# Altium footprint library 采集板3.0增加1路模拟量2.PcbLib: 46 footprints (part 1 of 3)
Each footprint in its own frame and in the unit in brackets; x right, y up, seen from the top. Pads: shape width x height; smd on the part's side, far side on the other; paste and mask are expansions set on the pad; w line width, h text height; cw(c..) or ccw(c..) is an arc to the next point about the centre after c.
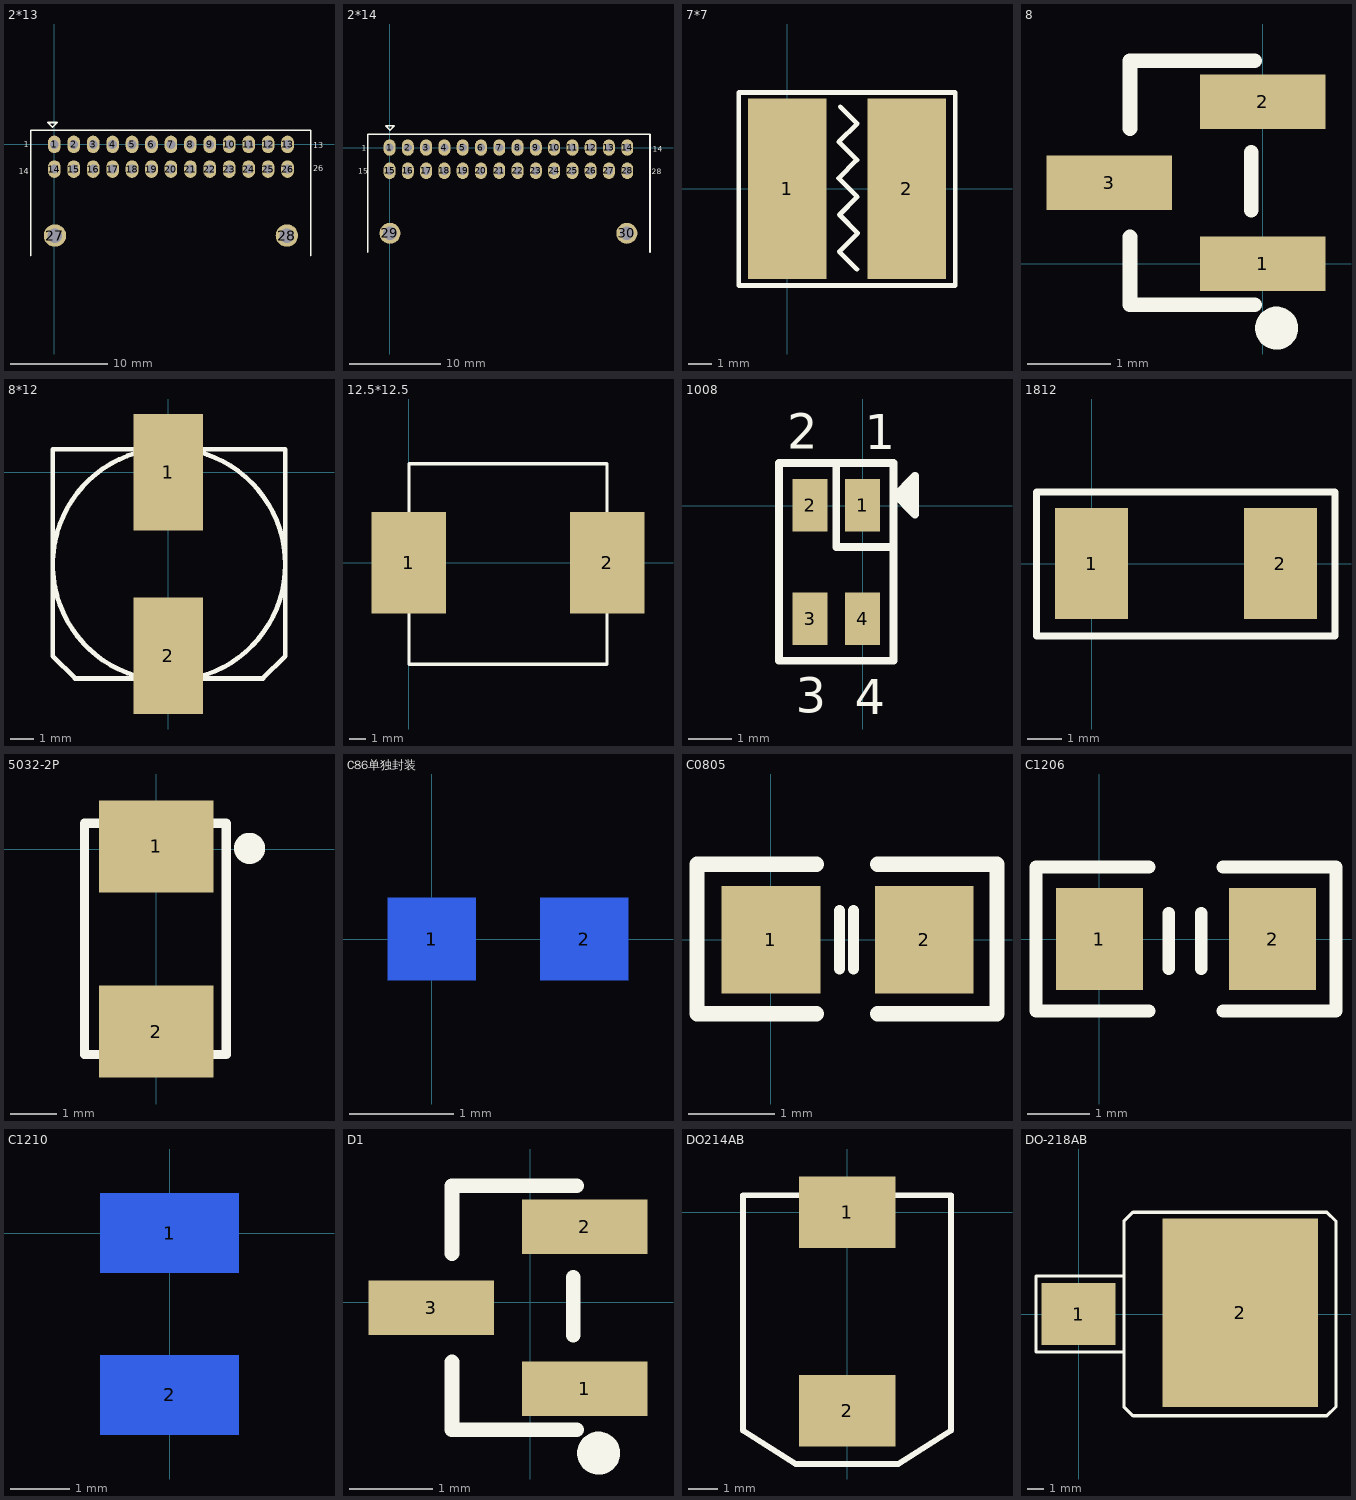
[diagram p0: the footprints below, top view; thin cyan lines are the x and y axes]

## 2*13 [mm]
pads (28):
  oval 1.3x1.8 hole 0.9: 1(0,0) 2(2,0) 3(4,0) 4(6,0) 5(8,0) 6(10,0) 7(12,0) 8(14,0) 9(16,0) 10(18,0) 11(20,0) 12(22,0) 13(24,0) 14(0,-2.54) 15(2,-2.54) 16(4,-2.54) 17(6,-2.54) 18(8,-2.54) 19(10,-2.54) 20(12,-2.54) 21(14,-2.54) 22(16,-2.54) 23(18,-2.54) 24(20,-2.54) 25(22,-2.54) 26(24,-2.54)
  round 2.3 hole 1.5: 27(0.066,-9.379) 28(23.934,-9.379)
Top Overlay:
  lines w0.178: -2.432,-11.441 -2.432,1.461 26.386,1.461 26.386,-11.441 ; -0.661,2.262 0.3,2.262 -0.18,1.782 -0.661,2.262
  text "26" at 26.637,-2.763 h0.6
  text "13" at 26.637,-0.38 h0.6
  text "14" at -3.634,-3.063 h0.6
  text "1" at -3.143,-0.31 h0.6

## 2*14 [mm]
pads (30):
  oval 1.3x1.8 hole 0.9: 1(0,0) 2(2,0) 3(4,0) 4(6,0) 5(8,0) 6(10,0) 7(12,0) 8(14,0) 9(16,0) 10(18,0) 11(20,0) 12(22,0) 13(24,0) 14(26,0) 15(0,-2.54) 16(2,-2.54) 17(4,-2.54) 18(6,-2.54) 19(8,-2.54) 20(10,-2.54) 21(12,-2.54) 22(14,-2.54) 23(16,-2.54) 24(18,-2.54) 25(20,-2.54) 26(22,-2.54) 27(24,-2.54) 28(26,-2.54)
  round 2.3 hole 1.5: 29(0.046,-9.379) 30(25.954,-9.379)
Top Overlay:
  lines w0.178: -2.369,-11.439 -2.369,1.463 28.492,1.463 28.492,-11.439 ; -0.43,2.372 0.531,2.372 0.05,1.892 -0.43,2.372
  text "28" at 28.672,-2.901 h0.6
  text "14" at 28.762,-0.458 h0.6
  text "15" at -3.45,-2.841 h0.6
  text "1" at -3.058,-0.377 h0.6

## 7*7 [mm]
pads (2):
  rect 3.3x7.6 smd: 1(0,0) 2(5.03,0)
Top Overlay:
  lines w0.203: 2.23,3.46 2.94,2.75 2.17,1.98 2.93,1.22 2.16,0.45 2.95,-0.34 2.2,-1.09 2.97,-1.86 2.19,-2.64 2.93,-3.38 ; -2.04,-4.07 7.07,-4.07 7.07,4.06 -2.04,4.06 -2.04,-4.07

## 8 [mm]
pads (3):
  rect 1.5x0.65 smd: 1(0,0) 2(0,1.94) 3(-1.84,0.97)
Top Overlay:
  circle w0.254: c0.165,-0.77 r0.13
  lines w0.178: -1.59,0.32 -1.59,-0.49 -0.1,-0.49 ; -1.59,1.62 -1.59,2.43 -0.1,2.43 ; -0.14,0.64 -0.14,1.33

## 8*12 [mm]
pads (2):
  rect 3x5 smd: 1(0,0) 2(0,-7.9)
Top Overlay:
  circle w0.203: c0.03,-3.97 r5
  lines w0.203: -4.97,-7.91 -4.97,0.99 5.03,0.99 5.03,-7.91 4.07,-8.87 -4.01,-8.87 -4.97,-7.91

## 12.5*12.5 [mm]
pads (2):
  rect 4.5x6.1 smd: 1(0,0) 2(11.96,0)
Top Overlay:
  lines w0.203: 0.02,-6.1 0.02,5.96 11.94,5.96 11.94,-6.1 0.02,-6.1

## 1008 [mm]
pads (4):
  rect 0.8x1.2 smd: 1(0,0.013) 2(-1.2,0.013) 3(-1.2,-2.583) 4(0,-2.583)
Top Overlay:
  lines w0.178: -0.6,0.97 -0.6,-0.94 0.67,-0.94 ; 0.71,0.2 1.2,0.69 1.2,-0.2 0.71,0.29 ; 0.87,0.21 1.18,0.21 ; 0.95,0.17 0.95,0.32 ; 1.08,0.03 1.08,0.45 ; -1.91,-3.54 -1.91,0.98 0.71,0.98 0.71,-3.54 -1.91,-3.54
  text "4" at -0.18,-4.76 h0.8
  text "3" at -1.53,-4.73 h0.8
  text "2" at -1.72,1.3 h0.8
  text "1" at 0.05,1.29 h0.8

## 1812 [mm]
pads (2):
  rect 2.1x3.2 smd: 1(0,0) 2(5.44,0)
Top Overlay:
  lines w0.203: -1.59,-2.08 7.01,-2.08 7.01,2.06 -1.59,2.06 -1.59,-2.08

## 5032-2P [mm]
pads (2):
  rect 2.5x2 smd: 1(0,0.064) 2(0,-3.973)
Top Overlay:
  circle w0.508: c2.035,0.02 r0.085
  lines w0.203: -1.56,-4.47 1.53,-4.47 1.53,0.57 -1.56,0.57 -1.56,-4.47

## C86单独封装 [mm]
pads (2):
  rect 0.85x0.8 smd far side: 1(0,0) 2(1.471,0)
Bottom Overlay:
  lines w0.127: 0.641,-0.27 0.641,0.27 ; 0.821,-0.27 0.821,0.27
  lines w0.152: 0.46,-0.601 -0.511,-0.601 cw(c-0.511,-0.4) -0.711,-0.4 -0.711,0.4 cw(c-0.511,0.4) -0.511,0.601 0.46,0.601 ; 1.011,-0.601 1.982,-0.601 ccw(c1.982,-0.4) 2.182,-0.4 2.182,0.4 ccw(c1.982,0.4) 1.982,0.601 1.011,0.601

## C0805 [mm]
pads (2):
  rect 1.15x1.25 smd: 1(0,0) 2(1.784,0)
Top Overlay:
  lines w0.127: 0.8,-0.34 0.8,0.34 ; 0.96,-0.34 0.96,0.34
  lines w0.178: 0.53,-0.86 -0.86,-0.86 -0.86,0.88 0.53,0.88 ; 1.24,-0.86 2.63,-0.86 2.63,0.88 1.24,0.88

## C1206 [mm]
pads (2):
  rect 1.4x1.65 smd: 1(0,0) 2(2.79,0)
Top Overlay:
  lines w0.203: 0.8,-1.16 -1.02,-1.16 -1.02,1.16 0.8,1.16 ; 1.12,-0.48 1.12,0.41 ; 1.64,-0.48 1.64,0.41 ; 1.99,-1.16 3.81,-1.16 3.81,1.16 1.99,1.16

## C1210 [mm]
pads (2):
  rect 2.35x1.35 smd far side: 1(0,0) 2(0,-2.745)
Bottom Overlay:
  lines w0.178: -1.532,-2.035 -1.532,-3.857 1.512,-3.857 1.512,-2.035 ; -1.532,-0.681 -1.532,1.141 1.512,1.141 1.512,-0.681 ; -0.5,-1.632 0.44,-1.632 ; -0.5,-1.151 0.44,-1.151

## D1 [mm]
pads (3):
  rect 1.5x0.65 smd: 1(0.655,-1.038) 2(0.655,0.902) 3(-1.185,-0.068)
Top Overlay:
  circle w0.254: c0.82,-1.808 r0.13
  lines w0.178: -0.935,-0.718 -0.935,-1.528 0.555,-1.528 ; -0.935,0.582 -0.935,1.392 0.555,1.392 ; 0.515,-0.398 0.515,0.292

## DO214AB [mm]
pads (2):
  rect 3.3x2.45 smd: 1(0,0) 2(0,-6.81)
Top Overlay:
  lines w0.203: -3.57,-7.48 -3.57,0.58 3.56,0.58 3.56,-7.48 1.75,-8.63 -1.76,-8.63 -3.57,-7.48

## DO-218AB [mm]
pads (2):
  rect 4.5x3.8 smd: 1(0,0)
  rect 9.5x11.5 smd: 2(9.86,0.08)
Top Overlay:
  lines w0.203: 2.77,-2.32 -2.6,-2.32 -2.6,2.32 2.77,2.32 ; 2.77,-5.66 3.32,-6.21 15.17,-6.21 15.72,-5.66 15.72,5.66 15.17,6.21 3.32,6.21 2.77,5.66 2.77,-5.66